# Altium integrated library TCP257libpkg.IntLib: 1 symbol
Pins are listed as number, name and electrical type; pins without a type are passive.

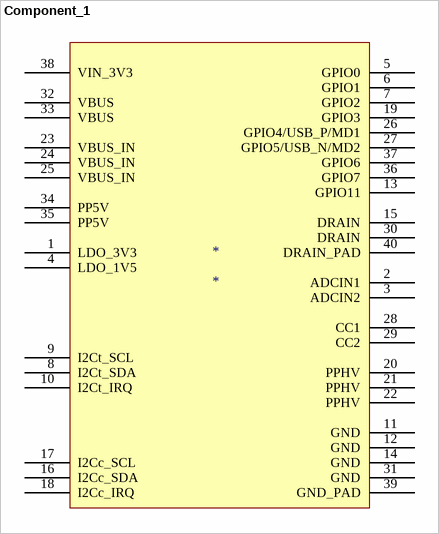
[diagram p0: symbol Component_1]

## Component_1
designator *
footprint 38-PowerWFQFN (QFN, 38-Leads, Body 6.00x4.00mm, Pitch 0.40mm, Thermal Pad 4.65x2.63mm, IPC Medium Density)
pins: 1 LDO_3V3, 2 ADCIN1, 3 ADCIN2, 4 LDO_1V5, 5 GPIO0, 6 GPIO1, 7 GPIO2, 8 I2Ct_SDA, 9 I2Ct_SCL, 10 I2Ct_IRQ, 11 GND, 12 GND, 13 GPIO11, 14 GND, 15 DRAIN, 16 I2Cc_SDA, 17 I2Cc_SCL, 18 I2Cc_IRQ, 19 GPIO3, 20 PPHV, 21 PPHV, 22 PPHV, 23 VBUS_IN, 24 VBUS_IN, 25 VBUS_IN, 26 GPIO4/USB_P/MD1, 27 GPIO5/USB_N/MD2, 28 CC1, 29 CC2, 30 DRAIN, 31 GND, 32 VBUS, 33 VBUS, 34 PP5V, 35 PP5V, 36 GPIO7, 37 GPIO6, 38 VIN_3V3, 39 GND_PAD, 40 DRAIN_PAD